# EAGLE library part 690357280676 (library WR-MM)
WR-MM Male SMT Connector w/o Latch & w/o Polarization Material Properties Insulator Material PBT Insulator Flammability Rating UL94 V-0 Insulator Color Red Contact Material Phosphor Bronze Contact Plating Matte Tin over Nickel Contact Type Stamped Packaging Properties cULus Approval E323964 Packaging Tape and Reel General Information Operating Temperature -40 °C up to +105 °C Pitch 2.54 mm Gender Male Electrical Properties Working Voltage 250 V (AC) Withstanding Voltage 500 V (AC) Contact Resistance 10 mΩ RISO 1000 MΩ <https://www.we-online.com/components/media/o33158v209%20Family-WR-MM-69035728xx76.jpg> Details see: www.we-online.com/en/components/products/MM_1_27_SMT_MALE_CONNECTOR_W_O_LATCH_AND_POLARIZATION_69035728XX76 <www.we-online.com/catalog/MM_1_27_SMT_MALE_CONNECTOR_W_O_LATCH_AND_POLARIZATION_69035728XX76/?utm_source=eagle_model&utm_medium=description_link&utm_campaign=eisos_eagle> Updated by Ella 2025-02-28 2025 (C) Würth Elektronik
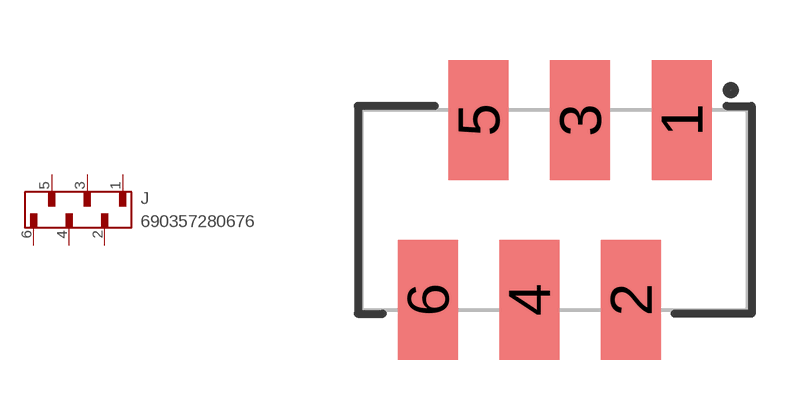
[diagram p83: symbol with the pads of 690357280676; footprint 690357280676]

Designator prefix J

## 690357280676 (DATASHEET-URL: https://www.we-online.com/redexpert/spec/690357280676?ae; GENDER: Male; IR: 1.5A; PACKAGING: Tape and Reel; PART-NUMBER: 690357280676; PINS: 6; PITCH: 2.54; TYPE: Straight; VALUE: 690357280676)  [690357280676]
1  1  pas
2  2  pas
3  3  pas
4  4  pas
5  5  pas
6  6  pas

## Footprint 690357280676 (pad centres in mm)
WR-MM Male SMT Connector w/o Latch & w/o Polarization, 6 pins
smd 1.5 x 3: 1 3.175,2.25; 2 1.905,-2.25; 3 0.635,2.25; 4 -0.635,-2.25; 5 -1.905,2.25; 6 -3.175,-2.25